# Altium footprint library QFP50P1400X1400X160-80N.PcbLib: 1 footprints
Each footprint in its own frame and in the unit in brackets; x right, y up, seen from the top. Pads: shape width x height; smd on the part's side, far side on the other; paste and mask are expansions set on the pad; w line width, h text height; cw(c..) or ccw(c..) is an arc to the next point about the centre after c.
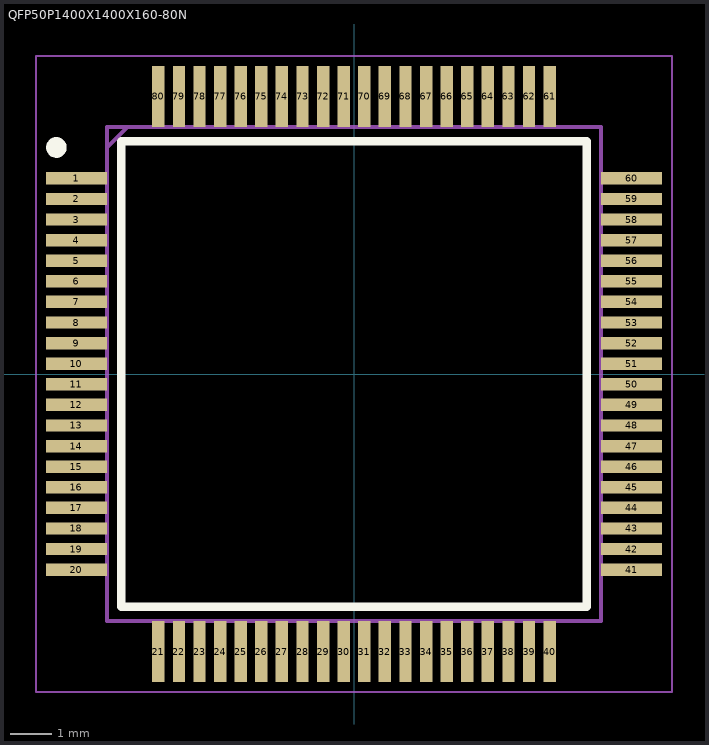
[diagram p0: the footprint, top view; thin cyan lines are the x and y axes]

## QFP50P1400X1400X160-80N [mm]
pads (80):
  rect 1.475x0.3 smd: 1(-6.738,4.75) 2(-6.738,4.25) 3(-6.738,3.75) 4(-6.738,3.25) 5(-6.738,2.75) 6(-6.738,2.25) 7(-6.738,1.75) 8(-6.738,1.25) 9(-6.738,0.75) 10(-6.738,0.25) 11(-6.738,-0.25) 12(-6.738,-0.75) 13(-6.738,-1.25) 14(-6.738,-1.75) 15(-6.738,-2.25) 16(-6.738,-2.75) 17(-6.738,-3.25) 18(-6.738,-3.75) 19(-6.738,-4.25) 20(-6.738,-4.75) 41(6.738,-4.75) 42(6.738,-4.25) 43(6.738,-3.75) 44(6.738,-3.25) 45(6.738,-2.75) 46(6.738,-2.25) 47(6.738,-1.75) 48(6.738,-1.25) 49(6.738,-0.75) 50(6.738,-0.25) 51(6.738,0.25) 52(6.738,0.75) 53(6.738,1.25) 54(6.738,1.75) 55(6.738,2.25) 56(6.738,2.75) 57(6.738,3.25) 58(6.738,3.75) 59(6.738,4.25) 60(6.738,4.75)
  rect 0.3x1.475 smd: 21(-4.75,-6.738) 22(-4.25,-6.738) 23(-3.75,-6.738) 24(-3.25,-6.738) 25(-2.75,-6.738) 26(-2.25,-6.738) 27(-1.75,-6.738) 28(-1.25,-6.738) 29(-0.75,-6.738) 30(-0.25,-6.738) 31(0.25,-6.738) 32(0.75,-6.738) 33(1.25,-6.738) 34(1.75,-6.738) 35(2.25,-6.738) 36(2.75,-6.738) 37(3.25,-6.738) 38(3.75,-6.738) 39(4.25,-6.738) 40(4.75,-6.738) 61(4.75,6.738) 62(4.25,6.738) 63(3.75,6.738) 64(3.25,6.738) 65(2.75,6.738) 66(2.25,6.738) 67(1.75,6.738) 68(1.25,6.738) 69(0.75,6.738) 70(0.25,6.738) 71(-0.25,6.738) 72(-0.75,6.738) 73(-1.25,6.738) 74(-1.75,6.738) 75(-2.25,6.738) 76(-2.75,6.738) 77(-3.25,6.738) 78(-3.75,6.738) 79(-4.25,6.738) 80(-4.75,6.738)
Top Overlay:
  circle w0.25: c-7.225,5.5 r0.125
  lines w0.2: -5.65,-5.65 5.65,-5.65 5.65,5.65 -5.65,5.65 -5.65,-5.65
Mechanical 15:
  lines w0.1: -6,5.5 -5.5,6 ; -6,-6 6,-6 6,6 -6,6 -6,-6
Mechanical 20:
  lines w0.05: -7.725,-7.725 7.725,-7.725 7.725,7.725 -7.725,7.725 -7.725,-7.725